# Altium schematic symbol library SCH - POWER - SWITCHMODE - TI TPS65381A-Q1DAP.SchLib: 1 symbol
Pins are listed as number, name and electrical type; pins without a type are passive.

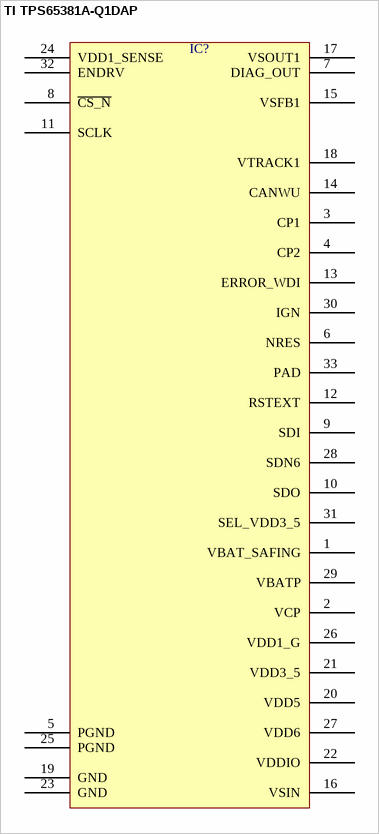
[diagram p0: symbol TI TPS65381A-Q1DAP]

## TI TPS65381A-Q1DAP
designator IC?  (value not drawn)
pins: 1 VBAT_SAFING, 2 VCP, 3 CP1, 4 CP2, 5 PGND, 6 NRES, 7 DIAG_OUT, 8 ~{CS_N}, 9 SDI, 10 SDO, 11 SCLK, 12 RSTEXT, 13 ERROR_WDI, 14 CANWU, 15 VSFB1, 16 VSIN, 17 VSOUT1, 18 VTRACK1, 19 GND, 20 VDD5, 21 VDD3_5, 22 VDDIO, 23 GND, 24 VDD1_SENSE, 25 PGND, 26 VDD1_G, 27 VDD6, 28 SDN6, 29 VBATP, 30 IGN, 31 SEL_VDD3_5, 32 ENDRV, 33 PAD